# EAGLE library part 53398-1110 (library molex-pico)
HEADER
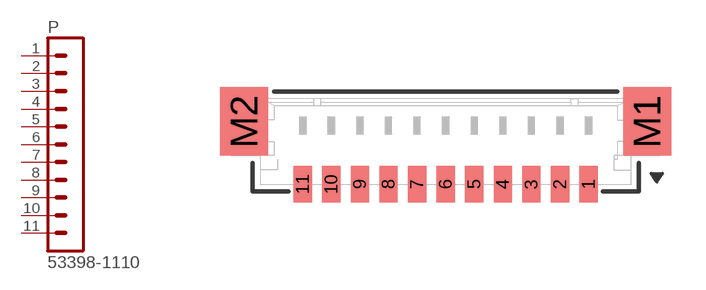
[diagram p25: symbol with the pads of 53398-1110; footprint 53398-1110]

Designator prefix P

## 53398-1110  [53398-1110]
1  1  pas
2  2  pas
3  3  pas
4  4  pas
5  5  pas
6  6  pas
7  7  pas
8  8  pas
9  9  pas
10  10  pas
11  11  pas

## Footprint 53398-1110 (pad centres in mm)
HEADER
smd 0.8 x 1.6: 1 6.25,0; 2 5,0; 3 3.75,0; 4 2.5,0; 5 1.25,0; 6 0,0; 7 -1.25,0; 8 -2.5,0; 9 -3.75,0; 10 -5,0; 11 -6.25,0
smd 2.1 x 3: M1 8.81,2.75; M2 -8.81,2.75